# Altium footprint library SparkFun-Aesthetics.PCBLIB: 126 footprints (part 2 of 8)
Each footprint in its own frame and in the unit in brackets; x right, y up, seen from the top. Pads: shape width x height; smd on the part's side, far side on the other; paste and mask are expansions set on the pad; w line width, h text height; cw(c..) or ccw(c..) is an arc to the next point about the centre after c.
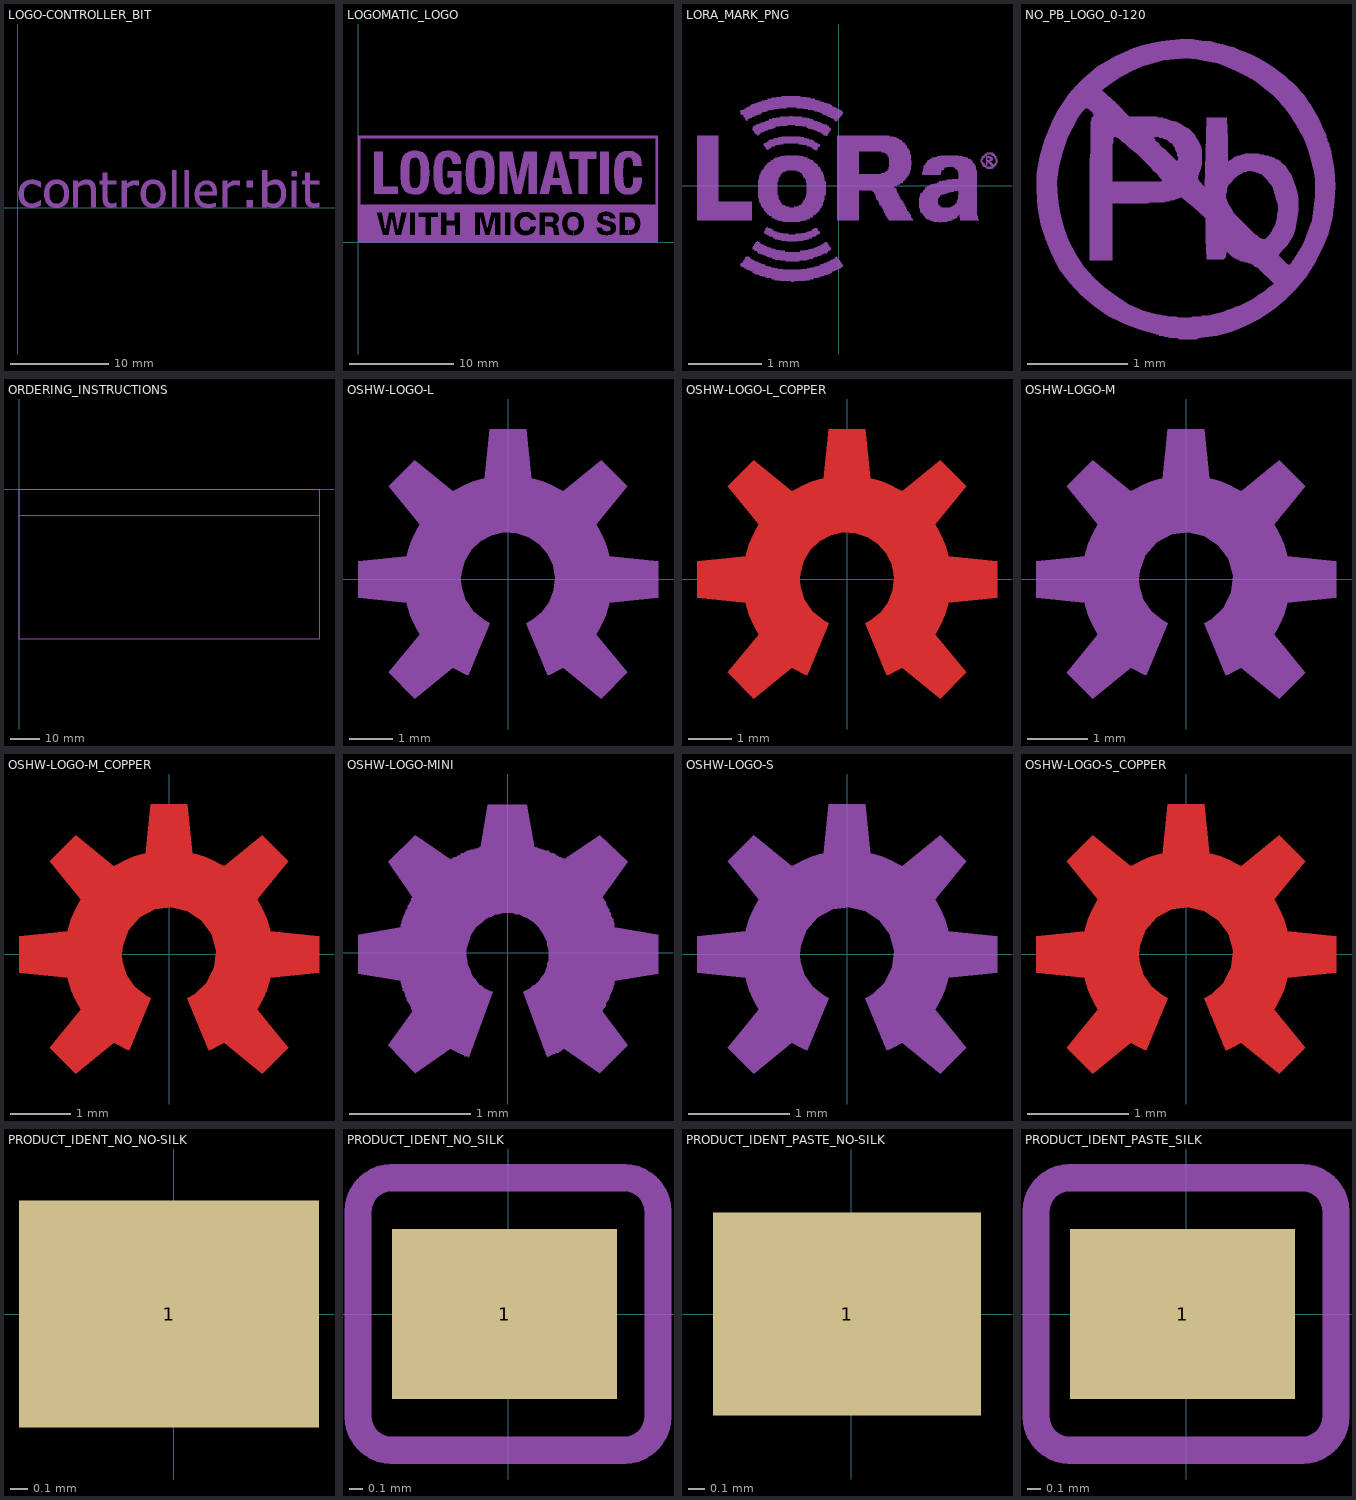
[diagram p1: the footprints below, top view; thin cyan lines are the x and y axes]

## LOGO-CONTROLLER_BIT [mil]
tPlace:
  drawing of 2553 lines, arcs and shapes, not listed

## LOGOMATIC_LOGO [mil]
tPlace:
  drawing of 15 lines, arcs and shapes, not listed

## LORA_MARK_PNG [mil]
tPlace:
  drawing of 785 lines, arcs and shapes, not listed

## NO_PB_LOGO_0-120 [mil]
tPlace:
  drawing of 6 lines, arcs and shapes, not listed

## ORDERING_INSTRUCTIONS [mil]
tDocu:
  lines w8: 0,-350 0,-2000 4000,-2000 4000,-350 ; 0,-350 0,0 4000,0 4000,-350 ; 0,-350 4000,-350
  text "Ordering Instructions:" at 50,-50 h102
  text "(Add these comments when uploading gerbers.)" at 50,-250 h59.5

## OSHW-LOGO-L [mil]
tPlace:
  region: 36.26,-87.52 38.07,-86.77 41.63,-85.12 45.12,-83.32 48.54,-81.38 50.2,-80.34 84.83,-108.58 108.58,-84.83 80.34,-50.2 82.42,-46.87 86.02,-39.88 89.03,-32.62 91.43,-25.14 92.31,-21.31 136.77,-16.79 136.77,16.79 92.31,21.31 91.43,25.14 89.03,32.62 86.02,39.88 82.42,46.87 80.34,50.2 108.58,84.83 84.83,108.58 50.2,80.34 46.87,82.42 39.88,86.02 32.62,89.03 25.14,91.43 21.31,92.31 16.79,136.77 -16.79,136.77 -21.31,92.31 -25.14,91.43 -32.62,89.03 -39.88,86.02 -46.87,82.42 -50.2,80.34 -84.83,108.58 -108.58,84.83 -80.34,50.2 -82.42,46.87 -86.02,39.88 -89.03,32.62 -91.43,25.14 -92.31,21.31 -136.77,16.79 -136.77,-16.79 -92.31,-21.31 -91.43,-25.14 -89.03,-32.62 -86.02,-39.88 -82.42,-46.87 -80.34,-50.2 -108.58,-84.83 -84.83,-108.58 -50.2,-80.34 -48.54,-81.38 -45.12,-83.32 -41.63,-85.12 -38.07,-86.77 -36.26,-87.52 -16.48,-39.78 -22.14,-36.93 -31.91,-28.92 -38.93,-18.41 -42.59,-6.32 -43.06,0 -42.67,5.79 -39.58,16.96 -33.62,26.91 -25.23,34.9 -15,40.36 -3.7,42.9 7.88,42.33 18.88,38.7 28.52,32.26 36.09,23.48 41.05,13.01 43.03,1.59 41.89,-9.95 37.72,-20.76 30.82,-30.07 21.68,-37.2 16.48,-39.78

## OSHW-LOGO-L_COPPER [mil]
Top:
  region: 36.26,-87.52 38.07,-86.77 41.63,-85.12 45.12,-83.32 48.54,-81.38 50.2,-80.34 84.83,-108.58 108.58,-84.83 80.34,-50.2 82.42,-46.87 86.02,-39.88 89.03,-32.62 91.43,-25.14 92.31,-21.31 136.77,-16.79 136.77,16.79 92.31,21.31 91.43,25.14 89.03,32.62 86.02,39.88 82.42,46.87 80.34,50.2 108.58,84.83 84.83,108.58 50.2,80.34 46.87,82.42 39.88,86.02 32.62,89.03 25.14,91.43 21.31,92.31 16.79,136.77 -16.79,136.77 -21.31,92.31 -25.14,91.43 -32.62,89.03 -39.88,86.02 -46.87,82.42 -50.2,80.34 -84.83,108.58 -108.58,84.83 -80.34,50.2 -82.42,46.87 -86.02,39.88 -89.03,32.62 -91.43,25.14 -92.31,21.31 -136.77,16.79 -136.77,-16.79 -92.31,-21.31 -91.43,-25.14 -89.03,-32.62 -86.02,-39.88 -82.42,-46.87 -80.34,-50.2 -108.58,-84.83 -84.83,-108.58 -50.2,-80.34 -48.54,-81.38 -45.12,-83.32 -41.63,-85.12 -38.07,-86.77 -36.26,-87.52 -16.48,-39.78 -22.14,-36.93 -31.91,-28.92 -38.93,-18.41 -42.59,-6.32 -43.06,0 -42.67,5.79 -39.58,16.96 -33.62,26.91 -25.23,34.9 -15,40.36 -3.7,42.9 7.88,42.33 18.88,38.7 28.52,32.26 36.09,23.48 41.05,13.01 43.03,1.59 41.89,-9.95 37.72,-20.76 30.82,-30.07 21.68,-37.2 16.48,-39.78

## OSHW-LOGO-M [mil]
tPlace:
  region: 25.9,-62.52 27.2,-61.98 29.74,-60.8 32.23,-59.52 34.67,-58.13 35.86,-57.39 60.6,-77.56 77.56,-60.6 57.39,-35.86 58.88,-33.48 61.44,-28.49 63.59,-23.3 65.3,-17.95 65.93,-15.22 97.69,-12 97.69,12 65.93,15.22 65.3,17.95 63.59,23.3 61.44,28.49 58.88,33.48 57.39,35.86 77.56,60.6 60.6,77.56 35.86,57.39 33.48,58.88 28.49,61.44 23.3,63.59 17.95,65.3 15.22,65.93 12,97.69 -12,97.69 -15.22,65.93 -17.95,65.3 -23.3,63.59 -28.49,61.44 -33.48,58.88 -35.86,57.39 -60.6,77.56 -77.56,60.6 -57.39,35.86 -58.88,33.48 -61.44,28.49 -63.59,23.3 -65.3,17.95 -65.93,15.22 -97.69,12 -97.69,-12 -65.93,-15.22 -65.3,-17.95 -63.59,-23.3 -61.44,-28.49 -58.88,-33.48 -57.39,-35.86 -77.56,-60.6 -60.6,-77.56 -35.86,-57.39 -34.67,-58.13 -32.23,-59.52 -29.74,-60.8 -27.2,-61.98 -25.9,-62.52 -11.77,-28.42 -15.81,-26.39 -22.79,-20.66 -27.81,-13.15 -30.43,-4.51 -30.76,0 -30.26,5.51 -26.38,15.81 -19.12,24.09 -9.41,29.28 1.51,30.72 12.23,28.22 21.39,22.1 27.81,13.15 30.66,2.51 29.58,-8.45 24.71,-18.33 16.67,-25.85 11.77,-28.42

## OSHW-LOGO-M_COPPER [mil]
Top:
  region: 25.9,-62.52 27.2,-61.98 29.74,-60.8 32.23,-59.52 34.67,-58.13 35.86,-57.39 60.6,-77.56 77.56,-60.6 57.39,-35.86 58.88,-33.48 61.44,-28.49 63.59,-23.3 65.3,-17.95 65.93,-15.22 97.69,-12 97.69,12 65.93,15.22 65.3,17.95 63.59,23.3 61.44,28.49 58.88,33.48 57.39,35.86 77.56,60.6 60.6,77.56 35.86,57.39 33.48,58.88 28.49,61.44 23.3,63.59 17.95,65.3 15.22,65.93 12,97.69 -12,97.69 -15.22,65.93 -17.95,65.3 -23.3,63.59 -28.49,61.44 -33.48,58.88 -35.86,57.39 -60.6,77.56 -77.56,60.6 -57.39,35.86 -58.88,33.48 -61.44,28.49 -63.59,23.3 -65.3,17.95 -65.93,15.22 -97.69,12 -97.69,-12 -65.93,-15.22 -65.3,-17.95 -63.59,-23.3 -61.44,-28.49 -58.88,-33.48 -57.39,-35.86 -77.56,-60.6 -60.6,-77.56 -35.86,-57.39 -34.67,-58.13 -32.23,-59.52 -29.74,-60.8 -27.2,-61.98 -25.9,-62.52 -11.77,-28.42 -15.81,-26.39 -22.79,-20.66 -27.81,-13.15 -30.43,-4.51 -30.76,0 -30.26,5.51 -26.38,15.81 -19.12,24.09 -9.41,29.28 1.51,30.72 12.23,28.22 21.39,22.1 27.81,13.15 30.66,2.51 29.58,-8.45 24.71,-18.33 16.67,-25.85 11.77,-28.42

## OSHW-LOGO-MINI [mil]
tPlace:
  drawing of 1 lines, arcs and shapes, not listed

## OSHW-LOGO-S [mil]
tPlace:
  region: 15.54,-37.51 16.32,-37.19 17.85,-36.48 19.34,-35.71 20.81,-34.88 21.52,-34.43 36.36,-46.54 46.54,-36.36 34.43,-21.52 35.32,-20.09 36.87,-17.09 38.15,-13.98 39.18,-10.77 39.56,-9.13 58.61,-7.2 58.61,7.2 39.56,9.13 39.18,10.77 38.15,13.98 36.87,17.09 35.32,20.09 34.43,21.52 46.54,36.36 36.36,46.54 21.52,34.43 20.09,35.32 17.09,36.87 13.98,38.15 10.77,39.18 9.13,39.56 7.2,58.61 -7.2,58.61 -9.13,39.56 -10.77,39.18 -13.98,38.15 -17.09,36.87 -20.09,35.32 -21.52,34.43 -36.36,46.54 -46.54,36.36 -34.43,21.52 -35.32,20.09 -36.87,17.09 -38.15,13.98 -39.18,10.77 -39.56,9.13 -58.61,7.2 -58.61,-7.2 -39.56,-9.13 -39.18,-10.77 -38.15,-13.98 -36.87,-17.09 -35.32,-20.09 -34.43,-21.52 -46.54,-36.36 -36.36,-46.54 -21.52,-34.43 -20.81,-34.88 -19.34,-35.71 -17.85,-36.48 -16.32,-37.19 -15.54,-37.51 -7.06,-17.05 -9.49,-15.83 -13.68,-12.39 -16.69,-7.89 -18.26,-2.71 -18.46,0 -18.16,3.3 -15.83,9.49 -11.48,14.45 -5.65,17.57 0.9,18.43 7.33,16.93 12.83,13.26 16.67,7.89 18.38,1.51 17.74,-5.07 14.82,-10.99 10,-15.51 7.06,-17.05

## OSHW-LOGO-S_COPPER [mil]
Top:
  region: 15.54,-37.51 16.32,-37.19 17.85,-36.48 19.34,-35.71 20.81,-34.88 21.52,-34.43 36.36,-46.54 46.54,-36.36 34.43,-21.52 35.32,-20.09 36.87,-17.09 38.15,-13.98 39.18,-10.77 39.56,-9.13 58.61,-7.2 58.61,7.2 39.56,9.13 39.18,10.77 38.15,13.98 36.87,17.09 35.32,20.09 34.43,21.52 46.54,36.36 36.36,46.54 21.52,34.43 20.09,35.32 17.09,36.87 13.98,38.15 10.77,39.18 9.13,39.56 7.2,58.61 -7.2,58.61 -9.13,39.56 -10.77,39.18 -13.98,38.15 -17.09,36.87 -20.09,35.32 -21.52,34.43 -36.36,46.54 -46.54,36.36 -34.43,21.52 -35.32,20.09 -36.87,17.09 -38.15,13.98 -39.18,10.77 -39.56,9.13 -58.61,7.2 -58.61,-7.2 -39.56,-9.13 -39.18,-10.77 -38.15,-13.98 -36.87,-17.09 -35.32,-20.09 -34.43,-21.52 -46.54,-36.36 -36.36,-46.54 -21.52,-34.43 -20.81,-34.88 -19.34,-35.71 -17.85,-36.48 -16.32,-37.19 -15.54,-37.51 -7.06,-17.05 -9.49,-15.83 -13.68,-12.39 -16.69,-7.89 -18.26,-2.71 -18.46,0 -18.16,3.3 -15.83,9.49 -11.48,14.45 -5.65,17.57 0.9,18.43 7.33,16.93 12.83,13.26 16.67,7.89 18.38,1.51 17.74,-5.07 14.82,-10.99 10,-15.51 7.06,-17.05

## PRODUCT_IDENT_NO_NO-SILK [mil]
pads (1):
  rect 66x50 smd paste+0: 1(-1,0)

## PRODUCT_IDENT_NO_SILK [mil]
pads (1):
  rect 66x50 smd paste+0: 1(-1,0)
tPlace:
  lines w8: -44,-30 ccw(c-34,-30) -34,-40 34,-40 ccw(c34,-30) 44,-30 44,30 ccw(c34,30) 34,40 -34,40 ccw(c-34,30) -44,30 -44,-30

## PRODUCT_IDENT_PASTE_NO-SILK [mil]
pads (1):
  rect 66x50 smd paste+0: 1(-1,0)
Top Paste:
  region: -38,-29 -38,29 36,29 36,-29

## PRODUCT_IDENT_PASTE_SILK [mil]
pads (1):
  rect 66x50 smd paste+0: 1(-1,0)
Top Paste:
  region: -38,-29 -38,29 36,29 36,-29
tPlace:
  lines w8: -44,-30 ccw(c-34,-30) -34,-40 34,-40 ccw(c34,-30) 44,-30 44,30 ccw(c34,30) 34,40 -34,40 ccw(c-34,30) -44,30 -44,-30